# Altium footprint library Footprints.PcbLib: 17 footprints (part 1 of 2)
Each footprint in its own frame and in the unit in brackets; x right, y up, seen from the top. Pads: shape width x height; smd on the part's side, far side on the other; paste and mask are expansions set on the pad; w line width, h text height; cw(c..) or ccw(c..) is an arc to the next point about the centre after c.
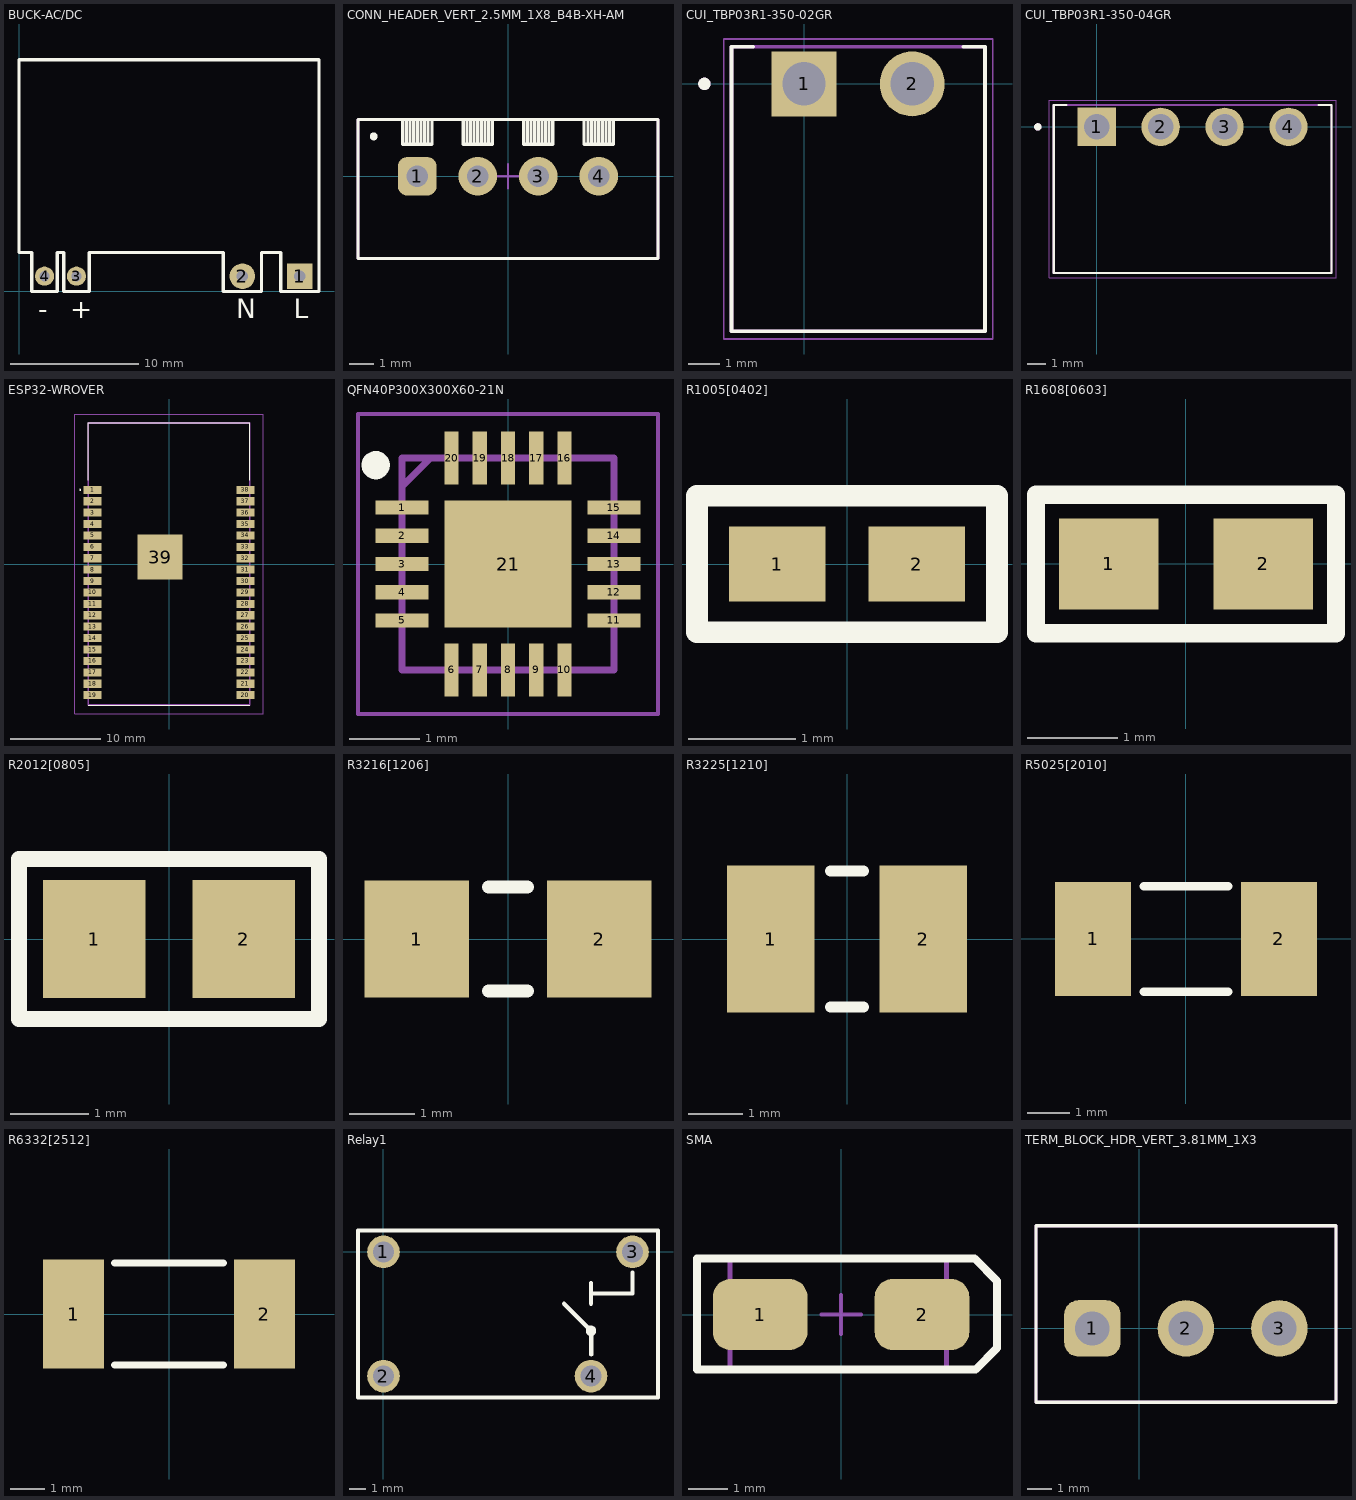
[diagram p0: the footprints below, top view; thin cyan lines are the x and y axes]

## BUCK-AC/DC [mm]
pads (4):
  rect 2x2 hole 0.9: 1(21.997,1.2)
  round 2 hole 0.9: 2(17.497,1.2)
  round 1.5 hole 0.8: 3(4.5,1.2) 4(2,1.2)
Top Overlay:
  lines w0.254: 0,3.047 0,18.155 23.497,18.155 23.497,0 20.497,0 20.497,3.047 18.997,3.047 18.997,0 15.997,0 15.997,3.047 5.5,3.047 5.5,0 3.5,0 3.5,3.047 3,3.047 3,0 1,0 1,3.047 0,3.047
  text "L" at 21.5,-2.1 h1.52
  text "N" at 17,-2.1 h1.52
  text "+" at 4,-2.1 h1.52
  text "-" at 1.5,-2.1 h1.52
3D body: height 10, standoff 0, extent 0,-0.1 23.6,18.2

## CONN_HEADER_VERT_2.5MM_1X8_B4B-XH-AM [mm]
pads (4):
  rrect50% 1.6x1.6 hole 0.9: 1(-3.75,0)
  round 1.6 hole 0.9: 2(-1.25,0) 3(1.25,0) 4(3.75,0)
Top Overlay:
  circle w0.254: c-5.55,1.65 r0.035
  lines w0.127: -4.2,1.325 -4.2,2.35 ; -4.175,2.35 -4.35,2.35 -4.35,1.325 -3.15,1.325 -3.15,2.35 ; -4.05,1.325 -4.05,2.35 ; -3.9,1.325 -3.9,2.35 ; -3.75,1.325 -3.75,2.35 ; -3.6,1.325 -3.6,2.35 ; -3.45,1.325 -3.45,2.35 ; -3.3,1.325 -3.3,2.35 ; -1.85,2.35 -1.85,1.325 -0.65,1.325 -0.65,2.35 ; -1.7,1.325 -1.7,2.35 ; -1.55,1.325 -1.55,2.35 ; -1.4,1.325 -1.4,2.35 ; -1.25,1.325 -1.25,2.35 ; -1.1,1.325 -1.1,2.35 ; -0.95,1.325 -0.95,2.35 ; -0.8,1.325 -0.8,2.35 ; 0.65,2.35 0.65,1.325 1.85,1.325 1.85,2.35 ; 0.8,1.325 0.8,2.35 ; 0.95,1.325 0.95,2.35 ; 1.1,1.325 1.1,2.35 ; 1.25,1.325 1.25,2.35 ; 1.4,1.325 1.4,2.35 ; 1.55,1.325 1.55,2.35 ; 1.7,1.325 1.7,2.35 ; 3.15,2.35 3.15,1.325 4.35,1.325 4.35,2.35 ; 3.3,1.325 3.3,2.35 ; 3.45,1.325 3.45,2.35 ; 3.6,1.325 3.6,2.35 ; 3.75,1.325 3.75,2.35 ; 3.9,1.325 3.9,2.35 ; 4.05,1.325 4.05,2.35 ; 4.2,1.325 4.2,2.35 ; 6.2,0 6.2,2.35 ; 6.2,2.35 6.2,-3.4 -6.2,-3.4 -6.2,2.35 6.2,2.35
Mechanical 13:
  lines w0.127: -6.2,-3.4 6.2,-3.4 6.2,2.35 -6.2,2.35 -6.2,-3.4
Mechanical 15:
  lines w0.1: -0.5,0 0.5,0 ; 0,-0.5 0,0.5
3D body "User Library-HEADER,JST,BxB-XH-A.step": height 7.1, standoff -3.3, extent -6.2,-3.4 6.2,2.35

## CUI_TBP03R1-350-02GR [mm]
height 7.2
pads (2):
  rect 2.1x2.1 / inner round 2.1 / far side rect 2.1x2.1 hole 1.4: 1(0,0)
  round 2.1 hole 1.4: 2(3.5,0)
Top Overlay:
  circle w0.2: c-3.22,0 r0.1
  lines w0.127: -1.65,1.2 -2.35,1.2 -2.35,-8 5.85,-8 5.85,1.2 5.15,1.2
Mechanical 13:
  circle w0.2: c-3.22,0 r0.1
  lines w0.127: -2.35,-8 -2.35,1.2 5.85,1.2 5.85,-8 -2.35,-8
Mechanical 15:
  lines w0.05: -2.6,-8.25 -2.6,1.45 6.1,1.45 6.1,-8.25 -2.6,-8.25
3D body "CUI_DEVICES_TBP03R1-350-02GR.step": height 7.2, standoff -3.4, extent -2.322,-8.057 5.878,1.143

## CUI_TBP03R1-350-04GR [mm]
height 7.2
pads (4):
  rect 2.1x2.1 / inner round 2.1 / far side rect 2.1x2.1 hole 1.4: 1(0,0)
  round 2.1 hole 1.4: 2(3.5,0) 3(7,0) 4(10.5,0)
Top Overlay:
  circle w0.2: c-3.22,0 r0.1
  lines w0.127: -1.65,1.2 -2.35,1.2 -2.35,-8 12.85,-8 12.85,1.2 12.15,1.2
Mechanical 13:
  circle w0.2: c-3.22,0 r0.1
  lines w0.127: -2.35,-8 12.85,-8 12.85,1.2 -2.35,1.2 -2.35,-8
Mechanical 15:
  lines w0.05: -2.6,-8.25 13.1,-8.25 13.1,1.45 -2.6,1.45 -2.6,-8.25
3D body "CUI_DEVICES_TBP03R1-350-04GR.step": height 7.2, standoff -3.4, extent -2.373,-8.057 12.827,1.143

## ESP32-WROVER [mm]
pads (39):
  rect 2x0.9 smd: 1(-8.5,8.26) 2(-8.5,6.99) 3(-8.5,5.72) 4(-8.5,4.45) 5(-8.5,3.18) 6(-8.5,1.91) 7(-8.5,0.64) 8(-8.5,-0.63) 9(-8.5,-1.9) 10(-8.5,-3.17) 11(-8.5,-4.44) 12(-8.5,-5.71) 13(-8.5,-6.98) 14(-8.5,-8.25) 15(-8.5,-9.52) 16(-8.5,-10.79) 17(-8.5,-12.06) 18(-8.5,-13.33) 19(-8.5,-14.6) 20(8.5,-14.6) 21(8.5,-13.33) 22(8.5,-12.06) 23(8.5,-10.79) 24(8.5,-9.52) 25(8.5,-8.25) 26(8.5,-6.98) 27(8.5,-5.71) 28(8.5,-4.44) 29(8.5,-3.17) 30(8.5,-1.9) 31(8.5,-0.63) 32(8.5,0.64) 33(8.5,1.91) 34(8.5,3.18) 35(8.5,4.45) 36(8.5,5.72) 37(8.5,6.99) 38(8.5,8.26)
  rect 5x5 smd: 39(-1,0.76)
Top Overlay:
  lines w0.1: -9,-15.7 9,-15.7 ; -9,9.35 -9,15.7 9,15.7 9,9.35 ; -9.9,8.2 cw(c-9.9,8.25) -9.9,8.3 cw(c-9.9,8.25) -9.9,8.2
Mechanical 13:
  lines w0.2: -9,-15.7 9,-15.7 9,15.7 -9,15.7 -9,-15.7
Mechanical 15:
  lines w0.1: -10.5,-16.7 10.5,-16.7 10.5,16.7 -10.5,16.7 -10.5,-16.7
3D body "ESP32-WROVER.stp": height 3.28, standoff -0.02, extent -9,-15.7 9,15.7

## QFN40P300X300X60-21N [mm]
pads (21):
  rect 0.75x0.2 smd: 1(-1.5,0.8) 2(-1.5,0.4) 3(-1.5,0) 4(-1.5,-0.4) 5(-1.5,-0.8) 11(1.5,-0.8) 12(1.5,-0.4) 13(1.5,0) 14(1.5,0.4) 15(1.5,0.8)
  rect 0.2x0.75 smd: 6(-0.8,-1.5) 7(-0.4,-1.5) 8(0,-1.5) 9(0.4,-1.5) 10(0.8,-1.5) 16(0.8,1.5) 17(0.4,1.5) 18(0,1.5) 19(-0.4,1.5) 20(-0.8,1.5)
  rect 1.8x1.8 smd: 21(0,0)
Top Overlay:
  circle w0.2: c-1.875,1.4 r0.1
Mechanical 13:
  lines w0.1: -1.5,1.1 -1.1,1.5 ; -1.5,-1.5 1.5,-1.5 1.5,1.5 -1.5,1.5 -1.5,-1.5
Mechanical 15:
  lines w0.05: -2.125,-2.125 2.125,-2.125 2.125,2.125 -2.125,2.125 -2.125,-2.125
3D body "ES8311.stp": height 0.6, standoff 0, extent -1.55,-1.55 1.55,1.55

## R1005[0402] [mm] "Chip Resistor; Body 1.1 x 0.5 mm (LxW typ)"
height 0.4
pads (2):
  rect 0.9x0.7 smd: 1(-0.65,0) 2(0.65,0)
Top Overlay:
  lines w0.203: -1.397,-0.635 -1.397,0.635 1.397,0.635 1.397,-0.635 -1.397,-0.635
3D body "0402 SMD Resistor.STEP": height 0.2, standoff 0, extent -0.5,-0.3 0.5,0.3

## R1608[0603] [mm] "Chip Resistor; Body 1.6 x 0.8 mm (LxW typ)"
height 0.6
pads (2):
  rect 1.1x1 smd: 1(-0.85,0) 2(0.85,0)
Top Overlay:
  lines w0.203: -1.651,-0.762 1.651,-0.762 1.651,0.762 -1.651,0.762 -1.651,-0.762
3D body "0603 SMD Resistor.STEP": height 0.3, standoff 0, extent -0.8,-0.4 0.8,0.4

## R2012[0805] [mm] "Chip Resistor; Body 2.0 x 1.3 mm (LxW typ)"
height 0.65
pads (2):
  rect 1.3x1.5 smd: 1(-0.95,0) 2(0.95,0)
Top Overlay:
  lines w0.203: -1.905,-1.016 1.905,-1.016 1.905,1.016 -1.905,1.016 -1.905,-1.016
3D body "0805 SMD Resistor.STEP": height 0.8, standoff 0.02, extent -0.996,-0.622 1.004,0.628

## R3216[1206] [mm] "Chip Resistor; Body 3.2 x 1.6 mm (LxW typ)"
height 0.71
pads (2):
  rect 1.6x1.8 smd: 1(-1.4,0) 2(1.4,0)
Top Overlay:
  lines w0.2: -0.3,-0.8 0.3,-0.8 ; -0.3,0.8 0.3,0.8
3D body "1206 SMD Resistor.STEP": height 1.02, standoff 0.02, extent -1.608,-0.818 1.592,0.782

## R3225[1210] [mm] "Chip Resistor; Body 3.2 x 2.5 mm (LxW typ)"
height 0.71
pads (2):
  rect 1.6x2.7 smd: 1(-1.4,0) 2(1.4,0)
Top Overlay:
  lines w0.2: -0.3,-1.25 0.3,-1.25 ; -0.3,1.25 0.3,1.25
3D body "1210 SMD Resistor.STEP": height 0.53, standoff -0.03, extent -1.6,-1.255 1.6,1.255

## R5025[2010] [mm] "Chip Resistor; Body 5.0 x 2.5 mm (LxW typ)"
height 0.71
pads (2):
  rect 1.8x2.7 smd: 1(-2.2,0) 2(2.2,0)
Top Overlay:
  lines w0.2: -1,-1.25 1,-1.25 ; -1,1.25 1,1.25

## R6332[2512] [mm] "Chip Resistor; Body 6.3 x 3.2 mm (LxW typ)"
height 0.71
pads (2):
  rect 1.8x3.2 smd: 1(-2.8,0) 2(2.8,0)
Top Overlay:
  lines w0.2: -1.6,-1.5 1.6,-1.5 ; -1.6,1.5 1.6,1.5

## Relay1 [mm]
pads (4):
  round 2 hole 1.3: 1(0,0) 2(0,-7.6) 3(15.24,0) 4(12.7,-7.6)
Top Overlay:
  circle w0.254: c12.7,-4.826 r0.192
  lines w0.254: 11.049,-3.175 12.7,-4.826 ; 12.7,-3.175 12.7,-1.905 ; 12.719,-6.282 12.719,-4.777 ; 12.827,-2.54 15.24,-2.54 15.24,-1.27 ; -1.56,-8.9 16.8,-8.9 16.8,1.3 -1.56,1.3 -1.56,-8.9
3D body "HF32F-G.step": height 15, standoff -4.3, extent -1.58,-8.91 16.82,1.29

## SMA [mm]
pads (2):
  rrect50% 2.4x1.8 smd paste-0.1: 1(-2.05,0) 2(2.05,0)
Top Overlay:
  lines w0.2: -3.65,-1.397 3.403,-1.397 3.95,-0.85 3.95,0.85 3.378,1.422 -3.65,1.422 -3.65,-1.397
Mechanical 13:
  lines w0.127: -2.819,-1.397 2.667,-1.397 2.667,1.397 -2.794,1.397 -2.819,1.397 -2.819,-1.397
Mechanical 15:
  lines w0.1: -0.5,0 0.5,0 ; 0,-0.5 0,0.5
3D body "SMA.STEP": height 2.6, standoff 0.03, extent -2.825,-1.4 2.675,1.4

## TERM_BLOCK_HDR_VERT_3.81MM_1X3 [mm]
pads (3):
  rrect50% 2.3x2.3 hole 1.4: 1(-1.905,0)
  round 2.3 hole 1.4: 2(1.905,0) 3(5.715,0)
Top Overlay:
  lines w0.127: -4.205,-3.01 8.025,-3.01 8.025,4.188 -4.205,4.188 -4.205,-3.01
Mechanical 13:
  lines w0.127: -4.205,-3.01 -4.205,4.188 8.025,4.188 8.025,-3.01 -4.205,-3.01
3D body "CUI_DEVICES_TBP02R2-381-03GR.step": height 9.29, standoff -3.41, extent -4.219,-2.965 8.001,4.235